# Altium footprint library SW_TL2203EE.PcbLib: 1 footprints
Each footprint in its own frame and in the unit in brackets; x right, y up, seen from the top. Pads: shape width x height; smd on the part's side, far side on the other; paste and mask are expansions set on the pad; w line width, h text height; cw(c..) or ccw(c..) is an arc to the next point about the centre after c.
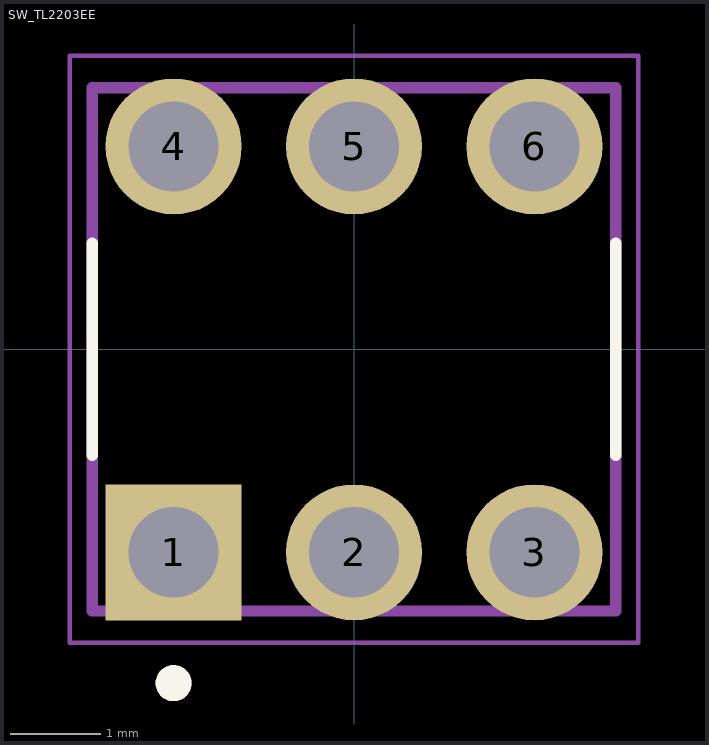
[diagram p0: the footprint, top view; thin cyan lines are the x and y axes]

## SW_TL2203EE [mm]
pads (6):
  rect 1.508x1.508 hole 1: 1(-2,-2.25)
  round 1.508 hole 1: 2(0,-2.25) 3(2,-2.25) 4(-2,2.25) 5(0,2.25) 6(2,2.25)
Top Overlay:
  circle w0.2: c-2,-3.7 r0.1
  lines w0.127: -2.9,-1.176 -2.9,1.176 ; 2.9,-1.176 2.9,1.176
Mechanical 13:
  circle w0.2: c-2,-3.7 r0.1
  lines w0.127: -2.9,-2.9 -2.9,2.9 2.9,2.9 2.9,-2.9 -2.9,-2.9
Mechanical 15:
  lines w0.05: -3.15,-3.254 -3.15,3.254 3.15,3.254 3.15,-3.254 -3.15,-3.254
3D body "step_temp.STEP": height 2.9, standoff -2.9, extent -2.9,-10 2.9,3.5